# Altium schematic symbol library Connector - Backplane.SchLib: 1 symbol
Pins are listed as number, name and electrical type; pins without a type are passive.

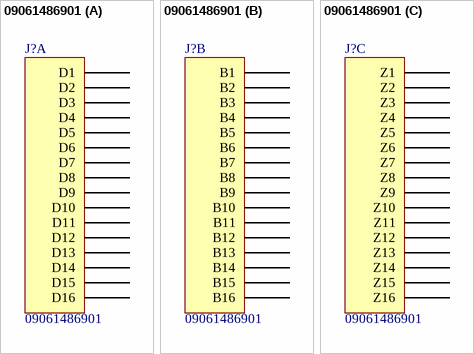
[diagram p0: symbol 09061486901]

## 09061486901
designator J?
DIN-POWER F048MS-3,0C1-2; Manufacturer: Harting; Number Of Positions: 48 (Power); Pitch: 0.200" (5.08mm); Style: F; Part Number: 09061486901; PartId: 27910; Supplier 1: Digi-Key; Supplier Part Number 1: 1195-1306-ND; ComponentLink1Description: Datasheet; ComponentLink1URL: https://b2b.harting.com/files/download/PRD/PDF_TS/0906148X901_100180101DRW107A.PDF; ComponentLink2Description: Digi-Key Listing; ComponentLink2URL: http://www.digikey.com/product-detail/en/harting/09061486901/1195-1306-ND/3179889; Operating Temperature: -; Price: 6.34; Type: Header, Male Pins; Part Status: Active; Series: DIN 41612; Number Of Rows: 3; Mounting Type: Through Hole, Right Angle; Termination: Solder; Features: -; Contact Finish: -
footprint HARTING 09061486901
part A pins: D1, D2, D3, D4, D5, D6, D7, D8, D9, D10, D11, D12, D13, D14, D15, D16
part B pins: B1, B2, B3, B4, B5, B6, B7, B8, B9, B10, B11, B12, B13, B14, B15, B16
part C pins: Z1, Z2, Z3, Z4, Z5, Z6, Z7, Z8, Z9, Z10, Z11, Z12, Z13, Z14, Z15, Z16